# Altium integrated library Altium_Coil_Inductor.IntLib: 108 symbols (part 3 of 3)
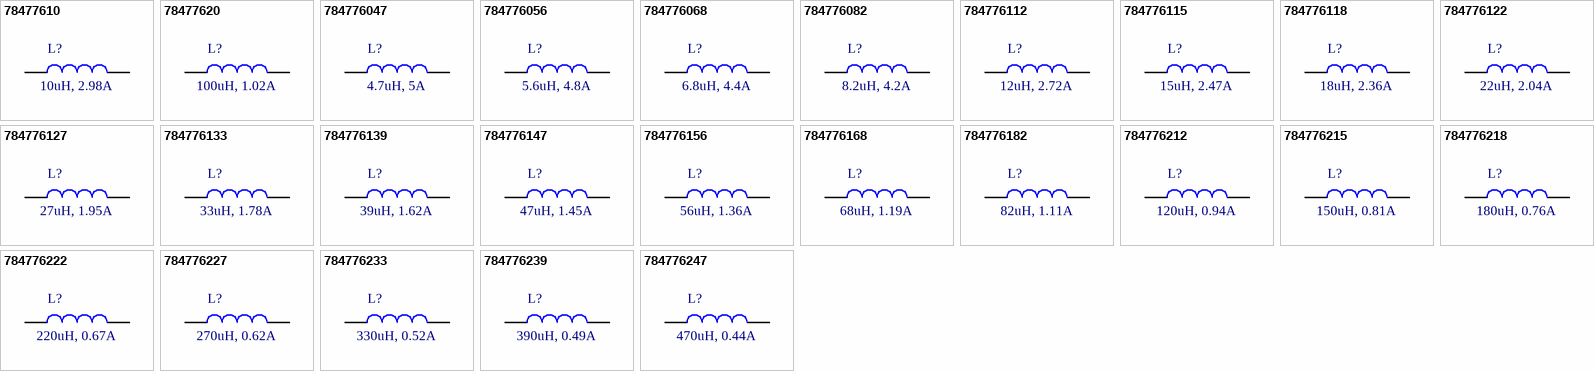
[diagram p8: symbols 78477610 to 784776247]

## 784776056
designator L?, comment 5.6uH, 4.8A
WE-PD2A SMT Power Inductor, size 1054, 5.6uH, 4.8A; Manufacturer Part Number: 784776056; Manufacturer: Wurth Elektronik; DC Resistance max.: 0.018Ohm; Saturation Current: 5.5A; Self Resonant Frequency: 42.82MHz; DC Resistance typ.: 0.015Ohm; Rated Voltage: 80VDC; ComponentLink1Description: Datasheet; ComponentLink1URL: https://www.we-online.com/catalog/datasheet/784776056.pdf; Published Date: May 2020; Rated Current: 4.8A; Inductance: 5.6uH; Operating Temperature: -40 to +125degC; Packaging: Tape and Reel; Size: 1054; Supplier 1 URL: https://www.mouser.vn/ProductDetail/Wurth-Elektronik/784776056?qs=sBf%2Fb4nBSlcsFY3%2F5PMBZA%3D%3D; Supplier 3 URL: N/A; Value: 5.6uH, 4.8A; Supplier 2 URL: https://www.digikey.com/en/products/detail/w%C3%BCrth-elektronik/784776056/5168910?s=N4IgjCBcoEwAwA4DsVQGMoDMCGAbAzgKYA0IA9lANogCsAdAGwAEArQBIgC6pADgC5QQAVQB2ASz4B5TAFlC2fAFcAToRABfUvAQJUIDJBwES5KiAAsdBEwCCXXgMjDxU2fKWqN69UA; LCSC Part #: N/A; Mount: SMD/SMT; Supplier 1: Mouser; Supplier 1 Part Number: 710-784776056; Supplier 2: Digi-Key; Supplier 2 Part Number: 732-6878-2-ND; Supplier 3: thegioiic; Supplier 3 Part Number: N/A
footprint WE-PD2A_1054
pins: 1, 2

## 784776068
designator L?, comment 6.8uH, 4.4A
WE-PD2A SMT Power Inductor, size 1054, 6.8uH, 4.4A; Manufacturer Part Number: 784776068; Manufacturer: Wurth Elektronik; DC Resistance max.: 0.019Ohm; Saturation Current: 5A; Self Resonant Frequency: 30.46MHz; DC Resistance typ.: 0.016Ohm; Rated Voltage: 80VDC; ComponentLink1Description: Datasheet; ComponentLink1URL: https://www.we-online.com/catalog/datasheet/784776068.pdf; Published Date: May 2020; Rated Current: 4.4A; Inductance: 6.8uH; Operating Temperature: -40 to +125degC; Packaging: Tape and Reel; Size: 1054; Supplier 1 URL: https://www.mouser.vn/ProductDetail/Wurth-Elektronik/784776056?qs=sBf%2Fb4nBSlcsFY3%2F5PMBZA%3D%3D; Supplier 3 URL: N/A; Value: 6.8uH, 4.4A; Supplier 2 URL: https://www.digikey.com/en/products/detail/w%C3%BCrth-elektronik/784776068/5168911?s=N4IgjCBcpgTAnBaIDGUBmBDANgZwKYA0IA9lANogDsYYALABwgC6xADgC5QgDKHATgEsAdgHMQAX2KwADAypRQaSFjxFSFEADYAdAwAEAVoASLdl0ggAqsMEcA8ugCy%2BTLgCu-fJOlymyZVUCYjJISjodOn0AQTMQTm4bO0cXN09vCUygA; LCSC Part #: N/A; Mount: SMD/SMT; Supplier 1: Mouser; Supplier 1 Part Number: 710-784776056; Supplier 2: Digi-Key; Supplier 2 Part Number: 732-6879-2-ND; Supplier 3: thegioiic; Supplier 3 Part Number: N/A
footprint WE-PD2A_1054
pins: 1, 2

## 784776082
designator L?, comment 8.2uH, 4.2A
WE-PD2A SMT Power Inductor, size 1054, 8.2uH, 4.2A; Manufacturer Part Number: 784776082; Manufacturer: Wurth Elektronik; DC Resistance max.: 0.024Ohm; Saturation Current: 4.25A; Self Resonant Frequency: 27.44MHz; DC Resistance typ.: 0.02Ohm; Rated Voltage: 80VDC; ComponentLink1Description: Datasheet; ComponentLink1URL: https://www.we-online.com/catalog/datasheet/784776082.pdf; Published Date: May 2020; Rated Current: 4.2A; Inductance: 8.2uH; Operating Temperature: -40 to +125degC; Packaging: Tape and Reel; Size: 1054; Supplier 1 URL: https://www.mouser.vn/ProductDetail/Wurth-Elektronik/784776082?qs=sBf%2Fb4nBSlev5zhWO5L9AA%3D%3D; Supplier 3 URL: N/A; Value: 8.2uH, 4.2A; Supplier 2 URL: https://www.digikey.com/en/products/detail/w%C3%BCrth-elektronik/784776082/5168912?s=N4IgTCBcDaIOwA4Asc4DYAMCIF0C%2BQAv; LCSC Part #: N/A; Mount: SMD/SMT; Supplier 1: Mouser; Supplier 1 Part Number: 710-784776082; Supplier 2: Digi-Key; Supplier 2 Part Number: 732-6880-2-ND; Supplier 3: thegioiic; Supplier 3 Part Number: N/A
footprint WE-PD2A_1054
pins: 1, 2

## 784776112
designator L?, comment 12uH, 2.72A
WE-PD2A SMT Power Inductor, size 1054, 12uH, 2.72A; Manufacturer Part Number: 784776112; Manufacturer: Wurth Elektronik; DC Resistance max.: 0.07Ohm; Saturation Current: 3.15A; Self Resonant Frequency: 26.1MHz; DC Resistance typ.: 0.033Ohm; Rated Voltage: 80VDC; ComponentLink1Description: Datasheet; ComponentLink1URL: https://www.we-online.com/catalog/datasheet/784776112.pdf; Published Date: May 2020; Rated Current: 2.72A; Inductance: 12uH; Operating Temperature: -40 to +125degC; Packaging: Tape and Reel; Size: 1054; Supplier 1 URL: https://www.digikey.com/en/products/detail/w%C3%BCrth-elektronik/784776112/5168913?s=N4IgTCBcDaIOwA4Asc4DYCMGIF0C%2BQA; Supplier 1 URL: https://www.mouser.vn/ProductDetail/Wurth-Elektronik/784776082?qs=sBf%2Fb4nBSlev5zhWO5L9AA%3D%3D; Supplier 3 URL: N/A; Value: 12uH, 2.72A; Supplier 2 URL: N/A; LCSC Part #: N/A; Mount: SMD/SMT; Supplier 1: Mouser; Supplier 1 Part Number: 710-784776082; Supplier 2: Digi-Key; Supplier 2 Part Number: 732-6882-2-ND; Supplier 3: thegioiic; Supplier 3 Part Number: N/A
footprint WE-PD2A_1054 (SMD Power Inductor, body 10x9mm)
pins: 1, 2

## 784776115
designator L?, comment 15uH, 2.47A
WE-PD2A SMT Power Inductor, size 1054, 15uH, 2.47A; Manufacturer Part Number: 784776115; Manufacturer: Wurth Elektronik; DC Resistance max.: 0.08Ohm; Saturation Current: 2.88A; Self Resonant Frequency: 19.68MHz; DC Resistance typ.: 0.034Ohm; Rated Voltage: 80VDC; ComponentLink1Description: Datasheet; ComponentLink1URL: https://www.we-online.com/catalog/datasheet/784776115.pdf; Published Date: May 2020; Rated Current: 2.47A; Inductance: 15uH; Operating Temperature: -40 to +125degC; Packaging: Tape and Reel; Size: 1054; Supplier 1 URL: https://www.digikey.com/en/products/detail/w%C3%BCrth-elektronik/784776112/5168913?s=N4IgTCBcDaIOwA4Asc4DYCMGIF0C%2BQA; Supplier 1 URL: https://www.mouser.vn/ProductDetail/Wurth-Elektronik/784776115?qs=sBf%2Fb4nBSld3%252BP2Xw8%2FaQw%3D%3D; Supplier 3 URL: N/A; Value: 15uH, 2.47A; Supplier 2 URL: N/A; LCSC Part #: N/A; Mount: SMD/SMT; Supplier 1: Mouser; Supplier 1 Part Number: 710-784776115; Supplier 2: Digi-Key; Supplier 2 Part Number: 732-6882-2-ND; Supplier 3: thegioiic; Supplier 3 Part Number: N/A
footprint WE-PD2A_1054
pins: 1, 2

## 784776118
designator L?, comment 18uH, 2.36A
WE-PD2A SMT Power Inductor, size 1054, 18uH, 2.36A; Manufacturer Part Number: 784776118; Manufacturer: Wurth Elektronik; DC Resistance max.: 0.09Ohm; Saturation Current: 2.43A; Self Resonant Frequency: 16.92MHz; DC Resistance typ.: 0.043Ohm; Rated Voltage: 80VDC; ComponentLink1Description: Datasheet; ComponentLink1URL: https://www.we-online.com/catalog/datasheet/784776118.pdf; Published Date: May 2020; Rated Current: 2.36A; Inductance: 18uH; Operating Temperature: -40 to +125degC; Packaging: Tape and Reel; Size: 1054; Supplier 1 URL: https://www.digikey.com/en/products/detail/w%C3%BCrth-elektronik/784776118/5168915?s=N4IgTCBcDaIOwA4Asc4DYCMGEgLoF8g; Supplier 1 URL: https://www.mouser.vn/ProductDetail/Wurth-Elektronik/784776118?qs=sBf%2Fb4nBSlfq00xwnpDWdQ%3D%3D; Supplier 3 URL: https://www.thegioiic.com/cdrh104-cuon-cam-dan-smd-1038-180-18uh-4-1a; Value: 18uH, 2.36A; Supplier 2 URL: N/A; LCSC Part #: N/A; Mount: SMD/SMT; Supplier 1: Mouser; Supplier 1 Part Number: 710-784776118; Supplier 2: Digi-Key; Supplier 2 Part Number: 732-6884-2-ND; Supplier 3: thegioiic; Supplier 3 Part Number: N/A
footprint WE-PD2A_1054
pins: 1, 2

## 784776122
designator L?, comment 22uH, 2.04A
WE-PD2A SMT Power Inductor, size 1054, 22uH, 2.04A; Manufacturer Part Number: 784776122; Manufacturer: Wurth Elektronik; DC Resistance max.: 0.1Ohm; Saturation Current: 2.07A; Self Resonant Frequency: 15.88MHz; DC Resistance typ.: 0.051Ohm; Rated Voltage: 80VDC; ComponentLink1Description: Datasheet; ComponentLink1URL: https://www.we-online.com/catalog/datasheet/784776122.pdf; Published Date: May 2020; Rated Current: 2.04A; Inductance: 22uH; Operating Temperature: -40 to +125degC; Packaging: Tape and Reel; Size: 1054; Supplier 1 URL: https://www.digikey.com/en/products/detail/w%C3%BCrth-elektronik/784776122/5168916?s=N4IgTCBcDaIOwA4Asc4DYCMYIF0C%2BQA; Supplier 1 URL: https://www.mouser.vn/ProductDetail/Wurth-Elektronik/784776122?qs=sBf%2Fb4nBSleT%252BQh%252B9qQ9GA%3D%3D; Supplier 3 URL: https://www.thegioiic.com/cdrh104-cuon-cam-dan-smd-1038-220-22uh-3-6a; Value: 22uH, 2.04A; Supplier 2 URL: N/A; LCSC Part #: N/A; Mount: SMD/SMT; Supplier 1: Mouser; Supplier 1 Part Number: 710-784776122; Supplier 2: Digi-Key; Supplier 2 Part Number: 732-6885-2-ND; Supplier 3: thegioiic; Supplier 3 Part Number: N/A
footprint WE-PD2A_1054
pins: 1, 2

## 784776127
designator L?, comment 27uH, 1.95A
WE-PD2A SMT Power Inductor, size 1054, 27uH, 1.95A; Manufacturer Part Number: 784776127; Manufacturer: Wurth Elektronik; DC Resistance max.: 0.11Ohm; Saturation Current: 1.98A; Self Resonant Frequency: 14.1MHz; DC Resistance typ.: 0.063Ohm; Rated Voltage: 80VDC; ComponentLink1Description: Datasheet; ComponentLink1URL: https://www.we-online.com/catalog/datasheet/784776127.pdf; Published Date: May 2020; Rated Current: 1.95A; Inductance: 27uH; Operating Temperature: -40 to +125degC; Packaging: Tape and Reel; Size: 1054; Supplier 1 URL: https://www.digikey.com/en/products/detail/w%C3%BCrth-elektronik/784776122/5168916?s=N4IgTCBcDaIOwA4Asc4DYCMYIF0C%2BQA; Supplier 1 URL: https://www.mouser.vn/ProductDetail/Wurth-Elektronik/784776122?qs=sBf%2Fb4nBSleT%252BQh%252B9qQ9GA%3D%3D; Supplier 3 URL: https://www.thegioiic.com/cdrh104-cuon-cam-dan-smd-1038-270-27uh-3-28a; Value: 27uH, 1.95A; Supplier 2 URL: N/A; LCSC Part #: N/A; Mount: SMD/SMT; Supplier 1: Mouser; Supplier 1 Part Number: 710-784776122; Supplier 2: Digi-Key; Supplier 2 Part Number: 732-6885-2-ND; Supplier 3: thegioiic; Supplier 3 Part Number: N/A
footprint WE-PD2A_1054
pins: 1, 2

## 784776133
designator L?, comment 33uH, 1.78A
WE-PD2A SMT Power Inductor, size 1054, 33uH, 1.78A; Manufacturer Part Number: 784776133; Manufacturer: Wurth Elektronik; DC Resistance max.: 0.12Ohm; Saturation Current: 1.89A; Self Resonant Frequency: 12.13MHz; DC Resistance typ.: 0.083Ohm; Rated Voltage: 80VDC; ComponentLink1Description: Datasheet; ComponentLink1URL: https://www.we-online.com/catalog/datasheet/784776133.pdf; Published Date: May 2020; Rated Current: 1.78A; Inductance: 33uH; Operating Temperature: -40 to +125degC; Packaging: Tape and Reel; Size: 1054; Supplier 1 URL: https://www.digikey.com/en/products/detail/w%C3%BCrth-elektronik/784776133/5168918?s=N4IgTCBcDaIOwA4Asc4DYCMBmLIC6AvkA; Supplier 1 URL: https://www.mouser.vn/ProductDetail/Wurth-Elektronik/784776133?qs=sBf%2Fb4nBSlelEe8OLa5hEg%3D%3D; Supplier 3 URL: https://www.thegioiic.com/cdrh104-cuon-cam-dan-smd-1038-330-33uh-2-9a; Value: 33uH, 1.78A; Supplier 2 URL: N/A; LCSC Part #: C5127312; Mount: SMD/SMT; Supplier 1: Mouser; Supplier 1 Part Number: 710-784776133; Supplier 2: Digi-Key; Supplier 2 Part Number: 732-6887-2-ND; Supplier 3: thegioiic; Supplier 3 Part Number: N/A
footprint WE-PD2A_1054
pins: 1, 2

## 784776139
designator L?, comment 39uH, 1.62A
WE-PD2A SMT Power Inductor, size 1054, 39uH, 1.62A; Manufacturer Part Number: 784776139; Manufacturer: Wurth Elektronik; DC Resistance max.: 0.14Ohm; Saturation Current: 1.8A; Self Resonant Frequency: 11.08MHz; DC Resistance typ.: 0.098Ohm; Rated Voltage: 80VDC; ComponentLink1Description: Datasheet; ComponentLink1URL: https://www.we-online.com/catalog/datasheet/784776139.pdf; Published Date: May 2020; Rated Current: 1.62A; Inductance: 39uH; Operating Temperature: -40 to +125degC; Packaging: Tape and Reel; Size: 1054; Supplier 1 URL: https://www.digikey.com/en/products/detail/w%C3%BCrth-elektronik/784776139/5168919?s=N4IgTCBcDaIOwA4Asc4DYCMBmAnCAugL5A; Supplier 1 URL: https://www.mouser.vn/ProductDetail/Wurth-Elektronik/784776139?qs=sBf%2Fb4nBSlch8Zo7izlW7A%3D%3D; Supplier 3 URL: https://www.thegioiic.com/cdrh104-cuon-cam-dan-smd-1038-390-39uh-2-62a; Value: 39uH, 1.62A; Supplier 2 URL: N/A; LCSC Part #: N/A; Mount: SMD/SMT; Supplier 1: Mouser; Supplier 1 Part Number: 710-784776139; Supplier 2: Digi-Key; Supplier 2 Part Number: 732-6888-2-ND; Supplier 3: thegioiic; Supplier 3 Part Number: N/A
footprint WE-PD2A_1054
pins: 1, 2

## 784776147
designator L?, comment 47uH, 1.45A
WE-PD2A SMT Power Inductor, size 1054, 47uH, 1.45A; Manufacturer Part Number: 784776147; Manufacturer: Wurth Elektronik; DC Resistance max.: 0.17Ohm; Saturation Current: 1.62A; Self Resonant Frequency: 9.77MHz; DC Resistance typ.: 0.095Ohm; Rated Voltage: 80VDC; ComponentLink1Description: Datasheet; ComponentLink1URL: https://www.we-online.com/catalog/datasheet/784776147.pdf; Published Date: May 2020; Rated Current: 1.45A; Inductance: 47uH; Operating Temperature: -40 to +125degC; Packaging: Tape and Reel; Size: 1054; Supplier 1 URL: https://www.mouser.vn/ProductDetail/Wurth-Elektronik/784776147?qs=sBf%2Fb4nBSle0C%2Fv6Vt57Vw%3D%3D; Supplier 3 URL: https://www.thegioiic.com/cdrh104-cuon-cam-dan-smd-1038-470-47uh-2-44a; Value: 47uH, 1.45A; Supplier 2 URL: https://www.digikey.com/en/products/detail/w%C3%BCrth-elektronik/784776147/5168920?s=N4IgTCBcDaIOwA4Asc4DYCMKQF0C%2BQA; LCSC Part #: N/A; Mount: SMD/SMT; Supplier 1: Mouser; Supplier 1 Part Number: 710-784776147; Supplier 2: Digi-Key; Supplier 2 Part Number: 732-6889-2-ND; Supplier 3: thegioiic; Supplier 3 Part Number: N/A
footprint WE-PD2A_1054
pins: 1, 2

## 784776156
designator L?, comment 56uH, 1.36A
WE-PD2A SMT Power Inductor, size 1054, 56uH, 1.36A; Manufacturer Part Number: 784776156; Manufacturer: Wurth Elektronik; DC Resistance max.: 0.19Ohm; Saturation Current: 1.53A; Self Resonant Frequency: 9.17MHz; DC Resistance typ.: 0.112Ohm; Rated Voltage: 80VDC; ComponentLink1Description: Datasheet; ComponentLink1URL: https://www.we-online.com/catalog/datasheet/784776156.pdf; Published Date: May 2020; Rated Current: 1.36A; Inductance: 56uH; Operating Temperature: -40 to +125degC; Packaging: Tape and Reel; Size: 1054; Supplier 1 URL: https://www.digikey.com/en/products/detail/w%C3%BCrth-elektronik/784776156/5168921?s=N4IgTCBcDaIOwA4Asc4DYCMBWNIC6AvkA; Supplier 1 URL: https://www.mouser.vn/ProductDetail/Wurth-Elektronik/784776156?qs=sBf%2Fb4nBSldQOE%252Bj3gW1Vg%3D%3D; Supplier 3 URL: https://www.thegioiic.com/cdrh104-cuon-cam-dan-smd-1038-560-56uh-2-18a; Value: 56uH, 1.36A; Supplier 2 URL: N/A; LCSC Part #: N/A; Mount: SMD/SMT; Supplier 1: Mouser; Supplier 1 Part Number: 710-784776156; Supplier 2: Digi-Key; Supplier 2 Part Number: 732-6890-2-ND; Supplier 3: thegioiic; Supplier 3 Part Number: N/A
footprint WE-PD2A_1054
pins: 1, 2

## 784776168
designator L?, comment 68uH, 1.19A
WE-PD2A SMT Power Inductor, size 1054, 68uH, 1.19A; Manufacturer Part Number: 784776168; Manufacturer: Wurth Elektronik; DC Resistance max.: 0.22Ohm; Saturation Current: 1.49A; Self Resonant Frequency: 8.63MHz; DC Resistance typ.: 0.138Ohm; Rated Voltage: 80VDC; ComponentLink1Description: Datasheet; ComponentLink1URL: https://www.we-online.com/catalog/datasheet/784776168.pdf; Published Date: May 2020; Rated Current: 1.19A; Inductance: 68uH; Operating Temperature: -40 to +125degC; Packaging: Tape and Reel; Size: 1054; Supplier 1 URL: https://www.digikey.com/en/products/detail/w%C3%BCrth-elektronik/784776168/5168922?s=N4IgTCBcDaIOwA4Asc4DYCMaEgLoF8g; Supplier 1 URL: https://www.mouser.vn/ProductDetail/Wurth-Elektronik/784776168?qs=sBf%2Fb4nBSlcnuEBwvWZWYA%3D%3D; Supplier 3 URL: N/A; Value: 68uH, 1.19A; Supplier 2 URL: N/A; LCSC Part #: N/A; Mount: SMD/SMT; Supplier 1: Mouser; Supplier 1 Part Number: 710-784776168; Supplier 2: Digi-Key; Supplier 2 Part Number: 732-6891-2-ND; Supplier 3: thegioiic; Supplier 3 Part Number: N/A
footprint WE-PD2A_1054
pins: 1, 2

## 784776182
designator L?, comment 82uH, 1.11A
WE-PD2A SMT Power Inductor, size 1054, 82uH, 1.11A; Manufacturer Part Number: 784776182; Manufacturer: Wurth Elektronik; DC Resistance max.: 0.25Ohm; Saturation Current: 1.17A; Self Resonant Frequency: 7.09MHz; DC Resistance typ.: 0.15Ohm; Rated Voltage: 80VDC; ComponentLink1Description: Datasheet; ComponentLink1URL: https://www.we-online.com/catalog/datasheet/784776182.pdf; Published Date: May 2020; Rated Current: 1.11A; Inductance: 82uH; Operating Temperature: -40 to +125degC; Packaging: Tape and Reel; Size: 1054; Supplier 1 URL: https://www.digikey.com/en/products/detail/w%C3%BCrth-elektronik/784776182/5168923?s=N4IgTCBcDaIOwA4Asc4DYCMCIF0C%2BQA; Supplier 1 URL: https://www.mouser.vn/ProductDetail/Wurth-Elektronik/784776182?qs=sBf%2Fb4nBSleN4m8cgwXGKQ%3D%3D; Supplier 3 URL: https://www.thegioiic.com/cdrh104-cuon-cam-dan-smd-1038-820-82uh-1-88a; Value: 82uH, 1.11A; Supplier 2 URL: N/A; LCSC Part #: N/A; Mount: SMD/SMT; Supplier 1: Mouser; Supplier 1 Part Number: 710-784776182; Supplier 2: Digi-Key; Supplier 2 Part Number: 732-6892-2-ND; Supplier 3: thegioiic; Supplier 3 Part Number: N/A
footprint WE-PD2A_1054
pins: 1, 2

## 784776212
designator L?, comment 120uH, 0.94A
WE-PD2A SMT Power Inductor, size 1054, 120uH, 0.94A; Manufacturer Part Number: 784776212; Manufacturer: Wurth Elektronik; DC Resistance max.: 0.4Ohm; Saturation Current: 0.99A; Self Resonant Frequency: 5.92MHz; DC Resistance typ.: 0.243Ohm; Rated Voltage: 80VDC; ComponentLink1Description: Datasheet; ComponentLink1URL: https://www.we-online.com/catalog/datasheet/784776212.pdf; Published Date: May 2020; Rated Current: 0.94A; Inductance: 120uH; Operating Temperature: -40 to +125degC; Packaging: Tape and Reel; Size: 1054; Supplier 1 URL: https://www.digikey.com/en/products/detail/w%C3%BCrth-elektronik/784776212/5168924?s=N4IgTCBcDaIOwA4Asc4DYwEYIF0C%2BQA; Supplier 1 URL: https://www.mouser.vn/ProductDetail/Wurth-Elektronik/784776212?qs=sBf%2Fb4nBSlfNh6ajb4DG4g%3D%3D; Supplier 3 URL: https://www.thegioiic.com/cdrh104-cuon-cam-dan-smd-1038-121-120uh-1-56a; Value: 120uH, 0.94A; Supplier 2 URL: N/A; LCSC Part #: N/A; Mount: SMD/SMT; Supplier 1: Mouser; Supplier 1 Part Number: 710-784776212; Supplier 2: Digi-Key; Supplier 2 Part Number: 732-6894-2-ND; Supplier 3: thegioiic; Supplier 3 Part Number: N/A
footprint WE-PD2A_1054
pins: 1, 2

## 784776215
designator L?, comment 150uH, 0.81A
WE-PD2A SMT Power Inductor, size 1054, 150uH, 0.81A; Manufacturer Part Number: 784776215; Manufacturer: Wurth Elektronik; DC Resistance max.: 0.47Ohm; Saturation Current: 0.9A; Self Resonant Frequency: 5.52MHz; DC Resistance typ.: 0.3Ohm; Rated Voltage: 80VDC; ComponentLink1Description: Datasheet; ComponentLink1URL: https://www.we-online.com/catalog/datasheet/784776215.pdf; Published Date: May 2020; Rated Current: 0.81A; Inductance: 150uH; Operating Temperature: -40 to +125degC; Packaging: Tape and Reel; Size: 1054; Supplier 1 URL: https://www.digikey.com/en/products/detail/w%C3%BCrth-elektronik/784776215/5168925?s=N4IgTCBcDaIOwA4Asc4DYwEYCsIC6AvkA; Supplier 1 URL: https://www.mouser.vn/ProductDetail/Wurth-Elektronik/784776215?qs=sBf%2Fb4nBSlfmLd8qXpTmXg%3D%3D; Supplier 3 URL: https://www.thegioiic.com/cdrh104-cuon-cam-dan-smd-1038-151-150uh-1-4a; Value: 150uH, 0.81A; Supplier 2 URL: N/A; LCSC Part #: N/A; Mount: SMD/SMT; Supplier 1: Mouser; Supplier 1 Part Number: 710-784776215; Supplier 2: Digi-Key; Supplier 2 Part Number: 732-6895-2-ND; Supplier 3: thegioiic; Supplier 3 Part Number: N/A
footprint WE-PD2A_1054
pins: 1, 2

## 784776218
designator L?, comment 180uH, 0.76A
WE-PD2A SMT Power Inductor, size 1054, 180uH, 0.76A; Manufacturer Part Number: 784776218; Manufacturer: Wurth Elektronik; DC Resistance max.: 0.63Ohm; Saturation Current: 0.78A; Self Resonant Frequency: 5.04MHz; DC Resistance typ.: 0.32Ohm; Rated Voltage: 80VDC; ComponentLink1Description: Datasheet; ComponentLink1URL: https://www.we-online.com/catalog/datasheet/784776218.pdf; Published Date: May 2020; Rated Current: 0.76A; Inductance: 180uH; Operating Temperature: -40 to +125degC; Packaging: Tape and Reel; Size: 1054; Supplier 1 URL: https://www.digikey.com/en/products/detail/w%C3%BCrth-elektronik/784776218/5168926?s=N4IgTCBcDaIOwA4Asc4DYwEYEgLoF8g; Supplier 1 URL: https://www.mouser.vn/ProductDetail/Wurth-Elektronik/784776218?qs=sBf%2Fb4nBSlf52JJEbARHAQ%3D%3D; Supplier 3 URL: https://www.thegioiic.com/cdrh104-cuon-cam-dan-smd-1038-181-180uh-1-24a; Value: 180uH, 0.76A; Supplier 2 URL: N/A; LCSC Part #: N/A; Mount: SMD/SMT; Supplier 1: Mouser; Supplier 1 Part Number: 710-784776218; Supplier 2: Digi-Key; Supplier 2 Part Number: 732-6896-2-ND; Supplier 3: thegioiic; Supplier 3 Part Number: N/A
footprint WE-PD2A_1054
pins: 1, 2

## 784776222
designator L?, comment 220uH, 0.67A
WE-PD2A SMT Power Inductor, size 1054, 220uH, 0.67A; Manufacturer Part Number: 784776222; Manufacturer: Wurth Elektronik; DC Resistance max.: 0.73Ohm; Saturation Current: 0.77A; Self Resonant Frequency: 4.55MHz; DC Resistance typ.: 0.451Ohm; Rated Voltage: 80VDC; ComponentLink1Description: Datasheet; ComponentLink1URL: https://www.we-online.com/catalog/datasheet/784776222.pdf; Published Date: May 2020; Rated Current: 0.67A; Inductance: 220uH; Operating Temperature: -40 to +125degC; Packaging: Tape and Reel; Size: 1054; Supplier 1 URL: https://www.digikey.com/en/products/detail/w%C3%BCrth-elektronik/784776222/5168927?s=N4IgTCBcDaIOwA4Asc4DYyZAXQL5A; Supplier 1 URL: https://www.mouser.vn/ProductDetail/Wurth-Elektronik/784776222?qs=sBf%2Fb4nBSld4wJY9PdcFLQ%3D%3D; Supplier 3 URL: https://www.thegioiic.com/cdrh104-cuon-cam-dan-smd-1038-221-220uh-1-19a; Value: 220uH, 0.67A; Supplier 2 URL: N/A; LCSC Part #: N/A; Mount: SMD/SMT; Supplier 1: Mouser; Supplier 1 Part Number: 710-784776222; Supplier 2: Digi-Key; Supplier 2 Part Number: 732-6897-2-ND; Supplier 3: thegioiic; Supplier 3 Part Number: N/A
footprint WE-PD2A_1054
pins: 1, 2

## 784776227
designator L?, comment 270uH, 0.62A
WE-PD2A SMT Power Inductor, size 1054, 270uH, 0.62A; Manufacturer Part Number: 784776227; Manufacturer: Wurth Elektronik; DC Resistance max.: 0.97Ohm; Saturation Current: 0.68A; Self Resonant Frequency: 3.87MHz; DC Resistance typ.: 0.5Ohm; Rated Voltage: 80VDC; ComponentLink1Description: Datasheet; ComponentLink1URL: https://www.we-online.com/catalog/datasheet/784776227.pdf; Published Date: May 2020; Rated Current: 0.62A; Inductance: 270uH; Operating Temperature: -40 to +125degC; Packaging: Tape and Reel; Size: 1054; Supplier 1 URL: https://www.digikey.com/en/products/detail/w%C3%BCrth-elektronik/784776227/5168928?s=N4IgTCBcDaIOwA4Asc4DYxjiAugXyA; Supplier 1 URL: https://www.mouser.vn/ProductDetail/Wurth-Elektronik/784776227?qs=sBf%2Fb4nBSldH%252BvC3DcC5AQ%3D%3D; Supplier 3 URL: https://www.thegioiic.com/cdrh104-cuon-cam-dan-smd-1038-271-270uh-1-06a; Value: 270uH, 0.62A; Supplier 2 URL: N/A; LCSC Part #: N/A; Mount: SMD/SMT; Supplier 1: Mouser; Supplier 1 Part Number: 710-784776227; Supplier 2: Digi-Key; Supplier 2 Part Number: 732-6898-2-ND; Supplier 3: thegioiic; Supplier 3 Part Number: N/A
footprint WE-PD2A_1054
pins: 1, 2

## 784776233
designator L?, comment 330uH, 0.52A
WE-PD2A SMT Power Inductor, size 1054, 330uH, 0.52A; Manufacturer Part Number: 784776233; Manufacturer: Wurth Elektronik; DC Resistance max.: 1.15Ohm; Saturation Current: 0.59A; Self Resonant Frequency: 3.57MHz; DC Resistance typ.: 0.75Ohm; Rated Voltage: 80VDC; ComponentLink1Description: Datasheet; ComponentLink1URL: https://www.we-online.com/catalog/datasheet/784776233.pdf; Published Date: May 2020; Rated Current: 0.52A; Inductance: 330uH; Operating Temperature: -40 to +125degC; Packaging: Tape and Reel; Size: 1054; Supplier 1 URL: https://www.digikey.com/en/products/detail/w%C3%BCrth-elektronik/784776233/5168929?s=N4IgTCBcDaIOwA4Asc4DYwGZMgLoF8g; Supplier 1 URL: https://www.mouser.vn/ProductDetail/Wurth-Elektronik/784776233?qs=sBf%2Fb4nBSlfHfo8OL%2FPJ4Q%3D%3D; Supplier 3 URL: N/A; Value: 330uH, 0.52A; Supplier 2 URL: N/A; LCSC Part #: N/A; Mount: SMD/SMT; Supplier 1: Mouser; Supplier 1 Part Number: 710-784776233; Supplier 2: Digi-Key; Supplier 2 Part Number: 732-6899-2-ND; Supplier 3: thegioiic; Supplier 3 Part Number: N/A
footprint WE-PD2A_1054 (SMD Power Inductor, body 10x9mm)
pins: 1, 2

## 784776239
designator L?, comment 390uH, 0.49A
WE-PD2A SMT Power Inductor, size 1054, 390uH, 0.49A; Manufacturer Part Number: 784776239; Manufacturer: Wurth Elektronik; DC Resistance max.: 1.3Ohm; Saturation Current: 0.54A; Self Resonant Frequency: 3.57MHz; DC Resistance typ.: 0.794Ohm; Rated Voltage: 80VDC; ComponentLink1Description: Datasheet; ComponentLink1URL: https://www.we-online.com/catalog/datasheet/784776239.pdf; Published Date: May 2020; Rated Current: 0.49A; Inductance: 390uH; Operating Temperature: -40 to +125degC; Packaging: Tape and Reel; Size: 1054; Supplier 1 URL: https://www.digikey.com/en/products/detail/w%C3%BCrth-elektronik/784776239/5168930?s=N4IgTCBcDaIOwA4Asc4DYwGYCcIC6AvkA; Supplier 1 URL: https://www.mouser.vn/ProductDetail/Wurth-Elektronik/784776239?qs=sBf%2Fb4nBSlfZxa3Jw5PZ%252BA%3D%3D; Supplier 3 URL: N/A; Value: 390uH, 0.49A; Supplier 2 URL: N/A; LCSC Part #: N/A; Mount: SMD/SMT; Supplier 1: Mouser; Supplier 1 Part Number: 710-784776239; Supplier 2: Digi-Key; Supplier 2 Part Number: 732-6900-2-ND; Supplier 3: thegioiic; Supplier 3 Part Number: N/A
footprint WE-PD2A_1054
pins: 1, 2

## 784776247
designator L?, comment 470uH, 0.44A
WE-PD2A SMT Power Inductor, size 1054, 470uH, 0.44A; Manufacturer Part Number: 784776247; Manufacturer: Wurth Elektronik; DC Resistance max.: 1.48Ohm; Saturation Current: 0.5A; Self Resonant Frequency: 2.94MHz; DC Resistance typ.: 0.969Ohm; Rated Voltage: 80VDC; ComponentLink1Description: Datasheet; ComponentLink1URL: https://www.we-online.com/catalog/datasheet/784776247.pdf; Published Date: May 2020; Rated Current: 0.44A; Inductance: 470uH; Operating Temperature: -40 to +125degC; Packaging: Tape and Reel; Size: 1054; Supplier 1 URL: https://www.digikey.com/en/products/detail/w%C3%BCrth-elektronik/784776247/5168931?s=N4IgTCBcDaIOwA4Asc4DYwpAXQL5A; Supplier 1 URL: https://www.mouser.vn/ProductDetail/Wurth-Elektronik/784776247?qs=sBf%2Fb4nBSlc%252BKtw1A0cG5A%3D%3D; Supplier 3 URL: https://www.thegioiic.com/cdrh104-cuon-cam-dan-smd-1038-471-470uh-2-44a; Value: 470uH, 0.44A; Supplier 2 URL: N/A; LCSC Part #: N/A; Mount: SMD/SMT; Supplier 1: Mouser; Supplier 1 Part Number: 710-784776247; Supplier 2: Digi-Key; Supplier 2 Part Number: 732-6901-2-ND; Supplier 3: thegioiic; Supplier 3 Part Number: N/A
footprint WE-PD2A_1054
pins: 1, 2


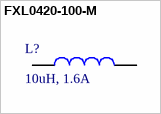
[diagram p5: symbol FXL0420-100-M]

## FXL0420-100-M
designator L?, comment 10uH, 1.6A
1.6A 10uH Integrated molded inductor ±20% 2.2A SMD,4.2x4.4mm Power Inductors ROHS; Manufacturer: cjiang; Manufacturer Part Number: FXL0420-100-M; DC Resistance max.: 0.282 Ohm; Rated Voltage: 80VDC; ComponentLink1Description: Datasheet; ComponentLink1URL: https://www.lcsc.com/datasheet/lcsc_datasheet_2404260921_cjiang--Changjiang-Microelectronics-Tech-FXL0420-100-M_C177242.pdf; DC Resistance typ.: N/A; Inductance: 10uH; LCSC Part #: C177242; Mount: SMD/SMT; Operating Temperature: -40 to +125degC; Packaging: Tape and Reel; Rated Current: 1.6A; Saturation Current: 2.2A; Self Resonant Frequency: N/A; Size: 0420; Supplier 1: Mouser; Supplier 1 Part Number: N/A; Supplier 1 URL: N/A; Supplier 2: Digi-Key; Supplier 2 Part Number: N/A; Supplier 2 URL: N/A; Supplier 3: thegioiic; Supplier 3 Part Number: N/A; Supplier 3 URL: N/A; Value: 10uH, 1.6A
footprint FXL0420
pins: 1, 2


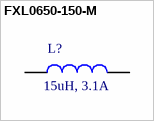
[diagram p6: symbol FXL0650-150-M]

## FXL0650-150-M
designator L?, comment 15uH, 3.1A
3.1A 15uH Integrated molded inductor ±20% 4A SMD,6.6x7mm Power Inductors ROHS; Manufacturer Part Number: FXL0650-150-M; Manufacturer: cjiang; DC Resistance max.: 0.09Ohm; Rated Voltage: 80VDC; ComponentLink1Description: Datasheet; ComponentLink1URL: https://www.lcsc.com/datasheet/lcsc_datasheet_2404260921_cjiang--Changjiang-Microelectronics-Tech-FXL0650-150-M_C475522.pdf; Rated Current: 3.1A; Inductance: 15uH; Operating Temperature: -40 to +125degC; Packaging: Tape and Reel; Saturation Current: 4A; Size: 0650; Self Resonant Frequency: N/A; DC Resistance typ.: N/A; Supplier 1 URL: N/A; Supplier 3 URL: N/A; Value: 15uH, 3.1A; Supplier 2 URL: N/A; LCSC Part #: C475522; Mount: SMD/SMT; Supplier 1: Mouser; Supplier 1 Part Number: N/A; Supplier 2: Digi-Key; Supplier 2 Part Number: N/A; Supplier 3: thegioiic; Supplier 3 Part Number: N/A
footprint FXL0650 (Precision Wire Wound Inductor, 2-Leads, Body 7.00x6.60mm, IPC Medium Density)
pins: 1, 2